# Altium schematic symbol library Diodes.SchLib: 3 symbols
Pins are listed as number, name and electrical type; pins without a type are passive.

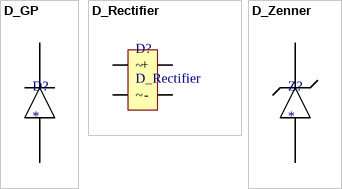
[diagram p0: symbols D_GP to D_Zenner]

## D_GP
designator D?
Single Diode Rectifier SMD
footprint SMA (Diode SMA)
footprint DIODO
footprint SMB (Diode SMB)
footprint SOD80
pins: 1, 2

## D_Rectifier
designator D?
Full bridge Rectifier; Digi-Key Part Number: DF04SCT-ND
footprint SDIP4
pins: 1 +, 2 -, 3 ~, 4 ~

## D_Zenner
designator Z?
Diode Zenner Type SMB
footprint SMB
footprint SOD123
pins: 1, 2